# EAGLE library part SI82394/8 (library silabs)
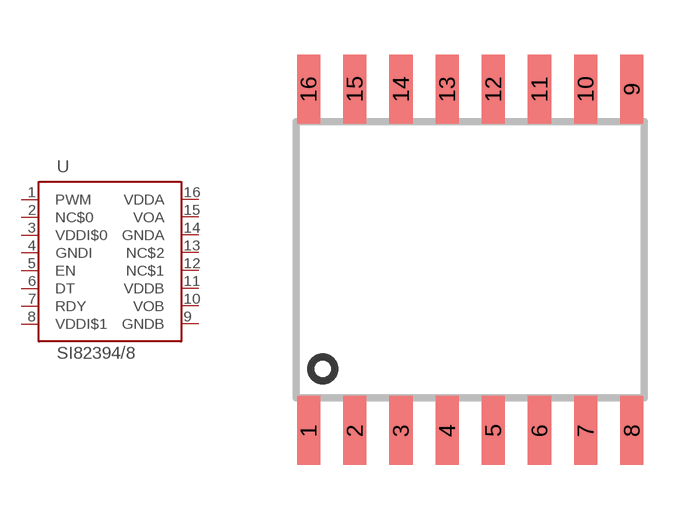
[diagram p1: symbol with the pads of SOIC16; footprint SOIC16]

Designator prefix -

## SI82394/8  [SOIC16]
1  PWM  in
2  NC$0  nc
3  VDDI$0  pwr
4  GNDI  pwr
5  EN  in
6  DT  pas
7  RDY  out
8  VDDI$1  pwr
9  GNDB  pwr
10  VOB  out
11  VDDB  pwr
12  NC$1  nc
13  NC$2  nc
14  GNDA  pwr
15  VOA  out
16  VDDA  pwr

## Footprint SOIC16 (pad centres in mm)
SMALL OUTLINE INTEGRATED CIRCUIT 16-Pin (150-Mil) SOIC Source: http://www.cypress.com .. 38-12025_0P_V.pdf
smd 0.635 x 1.9: 1 -4.445,-4.7; 2 -3.175,-4.7; 3 -1.905,-4.7; 4 -0.635,-4.7; 5 0.635,-4.7; 6 1.905,-4.7; 7 3.175,-4.7; 8 4.445,-4.7; 9 4.445,4.7; 10 3.175,4.7; 11 1.905,4.7; 12 0.635,4.7; 13 -0.635,4.7; 14 -1.905,4.7; 15 -3.175,4.7; 16 -4.445,4.7